# Altium integrated library TI Power Management Power Multiplexer (MUX).IntLib: 62 symbols (part 1 of 3)
Pins are listed as number, name and electrical type; pins without a type are passive.

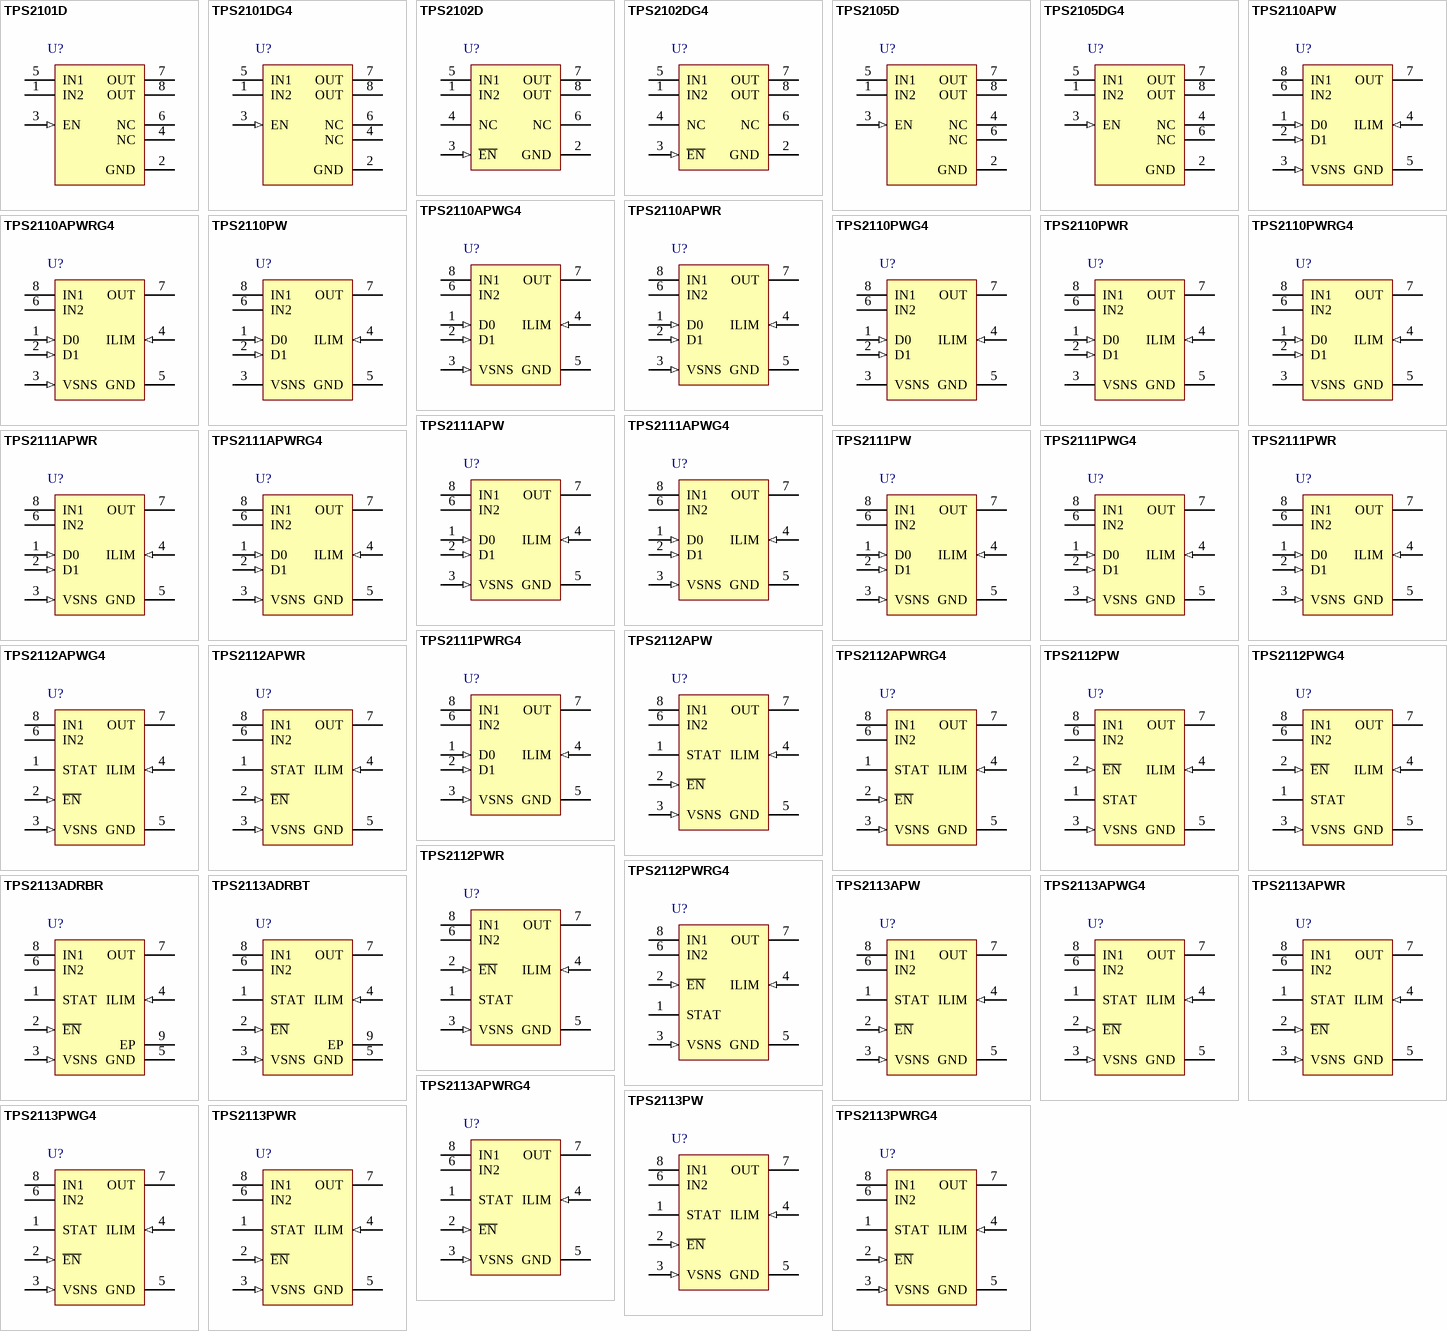
[diagram p0: symbols TPS2101D to TPS2113PWRG4]

## TPS2101D
designator U?
Dual In / Single Out MOSFET, 0.5 A Main / 0.01 A Aux Input, Act-Hi Enable, Comm. Temp, 2.7 to 4 V, -40 to 85 degC, 8-pin SOIC (D), Green (RoHS & no Sb/Br); Manufacturer: Texas Instruments; PartNumber: TPS2101D; IN1 Output Current(Max)(A): 0.5; IN1 rDS(on)(Typ)(mOhm): 250; IN1, IN2 Input Voltage(Max)(V): 4; IN1, IN2 Input Voltage(Min)(V): 2.7; IN2 Output Current(Max)(A): 0.01; IN2 rDS(on)(Typ)(Ohms): 1.3; Number of Inputs: 2; SubFamily: Power Multiplexer (MUX); DatasheetVersion: SLVS197D; PackageVersion: revM, Jun-2011; PackageReference: D8; PackageDescription: 8-Pin Plastic Small Outline Integrated Circuit, 4.9 x 3.9 mm, Pitch 1.27 mm Pitch; Supplier 1: Digi-Key; Supplier Part Number 1: 296-2585-5-ND; Supplier 2: Newark; Supplier Part Number 2: 77C0069; Supplier 3: Mouser; Supplier Part Number 3: 595-TPS2101D; Eco-Plan: Green (RoHS & no Sb/Br); Mounting Technology: Surface Mount; Code_JEDEC: MS-012AA; ComponentLink1Description: Datasheet; ComponentLink1URL: http://www.ti.com/general/docs/lit/getliterature.tsp?genericPartNumber=TPS2101&fileType=pdf
footprint D8_N (SOIC, 8-Leads, Body 4.9x3.9mm, Pitch 1.27mm, IPC Medium Density)
footprint D8_L (SOIC, 8-Leads, Body 4.9x3.9mm, Pitch 1.27mm, IPC High Density)
footprint D8_M (SOIC, 8-Leads, Body 4.9x3.9mm, Pitch 1.27mm, IPC Low Density)
pins: 1 IN2 (power) "Auxilliary input voltage, PMOS drain (1.3 ohm)", 2 GND (power) "Ground", 3 EN (in) "Active-high enable for IN1-OUT switch", 4 NC "No connection", 5 IN1 (power) "Main Input voltage, NMOS drain (250 mohm)", 6 NC "No connection", 7 OUT (power) "Power switch output", 8 OUT (power) "Power switch output"

## TPS2101DG4
designator U?
Dual In / Single Out MOSFET, 0.5 A Main / 0.01 A Aux Input, Act-Hi Enable, Comm. Temp, 2.7 to 4 V, -40 to 85 degC, 8-pin SOIC (D), Green (RoHS & no Sb/Br); Manufacturer: Texas Instruments; PartNumber: TPS2101DG4; IN1 Output Current(Max)(A): 0.5; IN1 rDS(on)(Typ)(mOhm): 250; IN1, IN2 Input Voltage(Max)(V): 4; IN1, IN2 Input Voltage(Min)(V): 2.7; IN2 Output Current(Max)(A): 0.01; IN2 rDS(on)(Typ)(Ohms): 1.3; Number of Inputs: 2; SubFamily: Power Multiplexer (MUX); DatasheetVersion: SLVS197D; PackageVersion: revM, Jun-2011; PackageReference: D8; PackageDescription: 8-Pin Plastic Small Outline Integrated Circuit, 4.9 x 3.9 mm, Pitch 1.27 mm Pitch; Supplier 1: Digi-Key; Supplier Part Number 1: TPS2101DG4-ND; Supplier 2: Newark; Supplier Part Number 2: 41M5856; Supplier 3: Mouser; Supplier Part Number 3: 595-TPS2101DG4; Eco-Plan: Green (RoHS & no Sb/Br); Mounting Technology: Surface Mount; Code_JEDEC: MS-012AA; ComponentLink1Description: Datasheet; ComponentLink1URL: http://www.ti.com/general/docs/lit/getliterature.tsp?genericPartNumber=TPS2101&fileType=pdf
footprint D8_N (SOIC, 8-Leads, Body 4.9x3.9mm, Pitch 1.27mm, IPC Medium Density)
footprint D8_L (SOIC, 8-Leads, Body 4.9x3.9mm, Pitch 1.27mm, IPC High Density)
footprint D8_M (SOIC, 8-Leads, Body 4.9x3.9mm, Pitch 1.27mm, IPC Low Density)
pins: 1 IN2 (power) "Auxilliary input voltage, PMOS drain (1.3 ohm)", 2 GND (power) "Ground", 3 EN (in) "Active-high enable for IN1-OUT switch", 4 NC "No connection", 5 IN1 (power) "Main Input voltage, NMOS drain (250 mohm)", 6 NC "No connection", 7 OUT (power) "Power switch output", 8 OUT (power) "Power switch output"

## TPS2102D
designator U?
Dual In / Single Out MOSFET, 0.5 A Main / 0.1 A Aux Input, Act-Low Enable, Comm. Temp, 2.7 to 4 V, -40 to 70 degC, 8-pin SOIC (D), Green (RoHS & no Sb/Br); Manufacturer: Texas Instruments; PartNumber: TPS2102D; IN1 Output Current(Max)(A): 0.5; IN1 rDS(on)(Typ)(mOhm): 250; IN1, IN2 Input Voltage(Max)(V): 4; IN1, IN2 Input Voltage(Min)(V): 2.7; IN2 Output Current(Max)(A): 0.1; IN2 rDS(on)(Typ)(Ohms): 1.3; Number of Inputs: 2; SubFamily: Power Multiplexer (MUX); DatasheetVersion: SLVS234A; PackageVersion: revM, Jun-2011; PackageReference: D8; PackageDescription: 8-Pin Plastic Small Outline Integrated Circuit, 4.9 x 3.9 mm, Pitch 1.27 mm Pitch; Supplier 1: Digi-Key; Supplier Part Number 1: 296-2587-5-ND; Supplier 2: Newark; Supplier Part Number 2: 77C0073; Supplier 3: Mouser; Supplier Part Number 3: 595-TPS2102D; Eco-Plan: Green (RoHS & no Sb/Br); Mounting Technology: Surface Mount; Code_JEDEC: MS-012AA; ComponentLink1Description: Datasheet; ComponentLink1URL: http://www.ti.com/general/docs/lit/getliterature.tsp?genericPartNumber=TPS2102&fileType=pdf
footprint D8_N (SOIC, 8-Leads, Body 4.9x3.9mm, Pitch 1.27mm, IPC Medium Density)
footprint D8_L (SOIC, 8-Leads, Body 4.9x3.9mm, Pitch 1.27mm, IPC High Density)
footprint D8_M (SOIC, 8-Leads, Body 4.9x3.9mm, Pitch 1.27mm, IPC Low Density)
pins: 1 IN2 (power) "Auxilliary input voltage, PMOS drain (1.3 ohm), require 0.22 uF bypass", 2 GND (power) "Ground", 3 ~{EN} (in) "Active-low enable for IN1-OUT switch", 4 NC "No connection", 5 IN1 (power) "Main Input voltage, NMOS drain (250 mohm), require 0.22 uF bypass", 6 NC "No connection", 7 OUT (power) "Power switch output", 8 OUT (power) "Power switch output"

## TPS2102DG4
designator U?
Dual In / Single Out MOSFET, 0.5 A Main / 0.1 A Aux Input, Act-Low Enable, Comm. Temp, 2.7 to 4 V, -40 to 70 degC, 8-pin SOIC (D), Green (RoHS & no Sb/Br); Manufacturer: Texas Instruments; PartNumber: TPS2102DG4; IN1 Output Current(Max)(A): 0.5; IN1 rDS(on)(Typ)(mOhm): 250; IN1, IN2 Input Voltage(Max)(V): 4; IN1, IN2 Input Voltage(Min)(V): 2.7; IN2 Output Current(Max)(A): 0.1; IN2 rDS(on)(Typ)(Ohms): 1.3; Number of Inputs: 2; SubFamily: Power Multiplexer (MUX); DatasheetVersion: SLVS234A; PackageVersion: revM, Jun-2011; PackageReference: D8; PackageDescription: 8-Pin Plastic Small Outline Integrated Circuit, 4.9 x 3.9 mm, Pitch 1.27 mm Pitch; Supplier 1: Digi-Key; Supplier Part Number 1: TPS2102DG4-ND; Supplier 2: Newark; Supplier Part Number 2: 33K7563; Supplier 3: Mouser; Supplier Part Number 3: 595-TPS2102DG4; Eco-Plan: Green (RoHS & no Sb/Br); Mounting Technology: Surface Mount; Code_JEDEC: MS-012AA; ComponentLink1Description: Datasheet; ComponentLink1URL: http://www.ti.com/general/docs/lit/getliterature.tsp?genericPartNumber=TPS2102&fileType=pdf
footprint D8_N (SOIC, 8-Leads, Body 4.9x3.9mm, Pitch 1.27mm, IPC Medium Density)
footprint D8_L (SOIC, 8-Leads, Body 4.9x3.9mm, Pitch 1.27mm, IPC High Density)
footprint D8_M (SOIC, 8-Leads, Body 4.9x3.9mm, Pitch 1.27mm, IPC Low Density)
pins: 1 IN2 (power) "Auxilliary input voltage, PMOS drain (1.3 ohm), require 0.22 uF bypass", 2 GND (power) "Ground", 3 ~{EN} (in) "Active-low enable for IN1-OUT switch", 4 NC "No connection", 5 IN1 (power) "Main Input voltage, NMOS drain (250 mohm), require 0.22 uF bypass", 6 NC "No connection", 7 OUT (power) "Power switch output", 8 OUT (power) "Power switch output"

## TPS2105D
designator U?
Dual In / Single Out MOSFET, 0.5 A Main / 0.1 A Aux Input, Act-High Enable, Industrial Temp, 2.7 to 5.5 V, -40 to 85 degC, 8-pin SOIC (D), Green (RoHS & no Sb/Br); Manufacturer: Texas Instruments; PartNumber: TPS2105D; IN1 Output Current(Max)(A): 0.5; IN1 rDS(on)(Typ)(mOhm): 250; IN1, IN2 Input Voltage(Max)(V): 5.5; IN1, IN2 Input Voltage(Min)(V): 2.7; IN2 Output Current(Max)(A): 0.1; IN2 rDS(on)(Typ)(Ohms): 1.3; Number of Inputs: 2; SubFamily: Power Multiplexer (MUX); DatasheetVersion: SLVS235A; PackageVersion: revM, Jun-2011; PackageReference: D8; PackageDescription: 8-Pin Plastic Small Outline Integrated Circuit, 4.9 x 3.9 mm, Pitch 1.27 mm Pitch; Supplier 1: Digi-Key; Supplier Part Number 1: 296-2592-5-ND; Supplier 2: Newark; Supplier Part Number 2: 77C0084; Supplier 3: Mouser; Supplier Part Number 3: 595-TPS2105D; Eco-Plan: Green (RoHS & no Sb/Br); Mounting Technology: Surface Mount; Code_JEDEC: MS-012AA; ComponentLink1Description: Datasheet; ComponentLink1URL: http://www.ti.com/general/docs/lit/getliterature.tsp?genericPartNumber=TPS2105&fileType=pdf
footprint D8_N (SOIC, 8-Leads, Body 4.9x3.9mm, Pitch 1.27mm, IPC Medium Density)
footprint D8_L (SOIC, 8-Leads, Body 4.9x3.9mm, Pitch 1.27mm, IPC High Density)
footprint D8_M (SOIC, 8-Leads, Body 4.9x3.9mm, Pitch 1.27mm, IPC Low Density)
pins: 1 IN2 (power) "Auxilliary input voltage, PMOS drain (1.3 ohm), require 0.22 uF bypass", 2 GND (power) "Ground", 3 EN (in) "Active-high enable for IN1-OUT switch", 4 NC "No connection", 5 IN1 (power) "Main input voltage, NMOS drain (250 mohm), require 0.22 uF bypass", 6 NC "No connection", 7 OUT (power) "Power switch output", 8 OUT (power) "Power switch output"

## TPS2105DG4
designator U?
Dual In / Single Out MOSFET, 0.5 A Main / 0.1 A Aux Input, Act-High Enable, Industrial Temp, 2.7 to 5.5 V, -40 to 85 degC, 8-pin SOIC (D), Green (RoHS & no Sb/Br); Manufacturer: Texas Instruments; PartNumber: TPS2105DG4; IN1 Output Current(Max)(A): 0.5; IN1 rDS(on)(Typ)(mOhm): 250; IN1, IN2 Input Voltage(Max)(V): 5.5; IN1, IN2 Input Voltage(Min)(V): 2.7; IN2 Output Current(Max)(A): 0.1; IN2 rDS(on)(Typ)(Ohms): 1.3; Number of Inputs: 2; SubFamily: Power Multiplexer (MUX); DatasheetVersion: SLVS235A; PackageVersion: revM, Jun-2011; PackageReference: D8; PackageDescription: 8-Pin Plastic Small Outline Integrated Circuit, 4.9 x 3.9 mm, Pitch 1.27 mm Pitch; Supplier 1: Digi-Key; Supplier Part Number 1: TPS2105DG4-ND; Supplier 2: Newark; Supplier Part Number 2: 41M5857; Supplier 3: Mouser; Supplier Part Number 3: 595-TPS2105DG4; Eco-Plan: Green (RoHS & no Sb/Br); Mounting Technology: Surface Mount; Code_JEDEC: MS-012AA; ComponentLink1Description: Datasheet; ComponentLink1URL: http://www.ti.com/general/docs/lit/getliterature.tsp?genericPartNumber=TPS2105&fileType=pdf
footprint D8_N (SOIC, 8-Leads, Body 4.9x3.9mm, Pitch 1.27mm, IPC Medium Density)
footprint D8_L (SOIC, 8-Leads, Body 4.9x3.9mm, Pitch 1.27mm, IPC High Density)
footprint D8_M (SOIC, 8-Leads, Body 4.9x3.9mm, Pitch 1.27mm, IPC Low Density)
pins: 1 IN2 (power) "Auxilliary input voltage, PMOS drain (1.3 ohm), require 0.22 uF bypass", 2 GND (power) "Ground", 3 EN (in) "Active-high enable for IN1-OUT switch", 4 NC "No connection", 5 IN1 (power) "Main input voltage, NMOS drain (250 mohm), require 0.22 uF bypass", 6 NC "No connection", 7 OUT (power) "Power switch output", 8 OUT (power) "Power switch output"

## TPS2110APW
designator U?
Dual In / Single Out Autoswitching Power Mux, 2.8 to 5.5 V, -40 to 85 degC, 8-pin TSSOP (PW), Green (RoHS & no Sb/Br); Manufacturer: Texas Instruments; PartNumber: TPS2110APW; IN1 Output Current(Max)(A): 0.75; IN1 rDS(on)(Typ)(mOhm): 120; IN1, IN2 Input Voltage(Max)(V): 5.5; IN1, IN2 Input Voltage(Min)(V): 2.8; IN2 rDS(on)(Typ)(Ohms): 0.12; Number of Inputs: 2; SubFamily: Power Multiplexer (MUX); DatasheetVersion: SBVS043A; PackageVersion: revG, Feb-2011; PackageReference: PW8; PackageDescription: 8-Pin Plastic Thin Small Outline Package 3 x 4.4 mm Body ,0.65 mm Pitch; Supplier 1: Digi-Key; Supplier Part Number 1: 296-34594-5-ND; Supplier 2: Newark; Supplier Part Number 2: 01J0954; Supplier 3: Mouser; Supplier Part Number 3: 595-TPS2110APW; Eco-Plan: Green (RoHS & no Sb/Br); IN2 Output Current(Max)(A): 0.75; Mounting Technology: Surface Mount; Code_JEDEC: MO-153; ComponentLink1Description: Datasheet; ComponentLink1URL: http://www.ti.com/general/docs/lit/getliterature.tsp?genericPartNumber=TPS2110A&fileType=pdf
footprint PW8_N (TSOP, 8-Leads, Body 3x4.4mm, Pitch 0.65mm, IPC Medium Density)
footprint PW8_L (TSOP, 8-Leads, Body 3x4.4mm, Pitch 0.65mm, IPC High Density)
footprint PW8_M (TSOP, 8-Leads, Body 3x4.4mm, Pitch 0.65mm, IPC Low Density)
pins: 1 D0 (in) "TTL- and CMOS-compatible input pins. Each pin has a 1-mA pull-up. The Truth Table illustrates the functionality of D0 and D1.", 2 D1 (in) "TTL- and CMOS-compatible input pins. Each pin has a 1-mA pull-up. The Truth Table illustrates the functionality of D0 and D1.", 3 VSNS (in) "In the auto-switching mode (D0 = 1, D1 = 0), an internal power FET connects OUT to IN1 if the VSNS voltage is greater than 0.8 V. Otherwise, the FET connects OUT to the higher of IN1 and IN2. The Truth Table illustrates the (See Datasheet)", 4 ILIM (in) "A resistor (RILIM) from ILIM to GND sets the current limit IL to 250/RILIM and 500/RILIM for the TPS2110A, respectively.", 5 GND (power) "Ground", 6 IN2 (power) "Secondary power switch input. The IN2 switch can be enabled only if the IN2 supply is above the UVLO threshold and at least one supply exceeds the internal VDD UVLO.", 7 OUT (power) "Power switch output", 8 IN1 (power) "Primary power switch input. The IN1 switch can be enabled only if the IN1 supply is above the UVLO threshold and at least one supply exceeds the internal VDD UVLO."

## TPS2110APWG4
designator U?
Dual In / Single Out Autoswitching Power Mux, 2.8 to 5.5 V, -40 to 85 degC, 8-pin TSSOP (PW), Green (RoHS & no Sb/Br); Manufacturer: Texas Instruments; PartNumber: TPS2110APWG4; IN1 Output Current(Max)(A): 0.75; IN1 rDS(on)(Typ)(mOhm): 120; IN1, IN2 Input Voltage(Max)(V): 5.5; IN1, IN2 Input Voltage(Min)(V): 2.8; IN2 rDS(on)(Typ)(Ohms): 0.12; Number of Inputs: 2; SubFamily: Power Multiplexer (MUX); DatasheetVersion: SBVS043A; PackageVersion: revG, Feb-2011; PackageReference: PW8; PackageDescription: 8-Pin Plastic Thin Small Outline Package 3 x 4.4 mm Body ,0.65 mm Pitch; Supplier 1: Digi-Key; Supplier Part Number 1: TPS2110APWG4-ND; Supplier 2: Newark; Supplier Part Number 2: 81K4133; Supplier 3: Mouser; Supplier Part Number 3: 595-TPS2110APWG4; Eco-Plan: Green (RoHS & no Sb/Br); IN2 Output Current(Max)(A): 0.75; Mounting Technology: Surface Mount; Code_JEDEC: MO-153; ComponentLink1Description: Datasheet; ComponentLink1URL: http://www.ti.com/general/docs/lit/getliterature.tsp?genericPartNumber=TPS2110A&fileType=pdf
footprint PW8_N (TSOP, 8-Leads, Body 3x4.4mm, Pitch 0.65mm, IPC Medium Density)
footprint PW8_L (TSOP, 8-Leads, Body 3x4.4mm, Pitch 0.65mm, IPC High Density)
footprint PW8_M (TSOP, 8-Leads, Body 3x4.4mm, Pitch 0.65mm, IPC Low Density)
pins: 1 D0 (in) "TTL- and CMOS-compatible input pins. Each pin has a 1-mA pull-up. The Truth Table illustrates the functionality of D0 and D1.", 2 D1 (in) "TTL- and CMOS-compatible input pins. Each pin has a 1-mA pull-up. The Truth Table illustrates the functionality of D0 and D1.", 3 VSNS (in) "In the auto-switching mode (D0 = 1, D1 = 0), an internal power FET connects OUT to IN1 if the VSNS voltage is greater than 0.8 V. Otherwise, the FET connects OUT to the higher of IN1 and IN2. The Truth Table illustrates the (See Datasheet)", 4 ILIM (in) "A resistor (RILIM) from ILIM to GND sets the current limit IL to 250/RILIM and 500/RILIM for the TPS2110A, respectively.", 5 GND (power) "Ground", 6 IN2 (power) "Secondary power switch input. The IN2 switch can be enabled only if the IN2 supply is above the UVLO threshold and at least one supply exceeds the internal VDD UVLO.", 7 OUT (power) "Power switch output", 8 IN1 (power) "Primary power switch input. The IN1 switch can be enabled only if the IN1 supply is above the UVLO threshold and at least one supply exceeds the internal VDD UVLO."

## TPS2110APWR
designator U?
Dual In / Single Out Autoswitching Power Mux, 2.8 to 5.5 V, -40 to 85 degC, 8-pin TSSOP (PW), Green (RoHS & no Sb/Br); Manufacturer: Texas Instruments; PartNumber: TPS2110APWR; IN1 Output Current(Max)(A): 0.75; IN1 rDS(on)(Typ)(mOhm): 120; IN1, IN2 Input Voltage(Max)(V): 5.5; IN1, IN2 Input Voltage(Min)(V): 2.8; IN2 rDS(on)(Typ)(Ohms): 0.12; Number of Inputs: 2; SubFamily: Power Multiplexer (MUX); DatasheetVersion: SBVS043A; PackageVersion: revG, Feb-2011; PackageReference: PW8; PackageDescription: 8-Pin Plastic Thin Small Outline Package 3 x 4.4 mm Body ,0.65 mm Pitch; Supplier 1: Digi-Key; Supplier Part Number 1: 296-16935-2-ND; Supplier 2: Digi-Key; Supplier Part Number 2: 296-16935-1-ND; Supplier 3: Digi-Key; Supplier Part Number 3: 296-16935-6-ND; Supplier 4: Newark; Supplier Part Number 4: 01J0955; Supplier 5: Mouser; Supplier Part Number 5: 595-TPS2110APWR; Eco-Plan: Green (RoHS & no Sb/Br); IN2 Output Current(Max)(A): 0.75; Mounting Technology: Surface Mount; Code_JEDEC: MO-153; ComponentLink1Description: Datasheet; ComponentLink1URL: http://www.ti.com/general/docs/lit/getliterature.tsp?genericPartNumber=TPS2110A&fileType=pdf
footprint PW8_N (TSOP, 8-Leads, Body 3x4.4mm, Pitch 0.65mm, IPC Medium Density)
footprint PW8_L (TSOP, 8-Leads, Body 3x4.4mm, Pitch 0.65mm, IPC High Density)
footprint PW8_M (TSOP, 8-Leads, Body 3x4.4mm, Pitch 0.65mm, IPC Low Density)
pins: 1 D0 (in) "TTL- and CMOS-compatible input pins. Each pin has a 1-mA pull-up. The Truth Table illustrates the functionality of D0 and D1.", 2 D1 (in) "TTL- and CMOS-compatible input pins. Each pin has a 1-mA pull-up. The Truth Table illustrates the functionality of D0 and D1.", 3 VSNS (in) "In the auto-switching mode (D0 = 1, D1 = 0), an internal power FET connects OUT to IN1 if the VSNS voltage is greater than 0.8 V. Otherwise, the FET connects OUT to the higher of IN1 and IN2. The Truth Table illustrates the (See Datasheet)", 4 ILIM (in) "A resistor (RILIM) from ILIM to GND sets the current limit IL to 250/RILIM and 500/RILIM for the TPS2110A, respectively.", 5 GND (power) "Ground", 6 IN2 (power) "Secondary power switch input. The IN2 switch can be enabled only if the IN2 supply is above the UVLO threshold and at least one supply exceeds the internal VDD UVLO.", 7 OUT (power) "Power switch output", 8 IN1 (power) "Primary power switch input. The IN1 switch can be enabled only if the IN1 supply is above the UVLO threshold and at least one supply exceeds the internal VDD UVLO."

## TPS2110APWRG4
designator U?
Dual In / Single Out Autoswitching Power Mux, 2.8 to 5.5 V, -40 to 85 degC, 8-pin TSSOP (PW), Green (RoHS & no Sb/Br); Manufacturer: Texas Instruments; PartNumber: TPS2110APWRG4; IN1 Output Current(Max)(A): 0.75; IN1 rDS(on)(Typ)(mOhm): 120; IN1, IN2 Input Voltage(Max)(V): 5.5; IN1, IN2 Input Voltage(Min)(V): 2.8; IN2 rDS(on)(Typ)(Ohms): 0.12; Number of Inputs: 2; SubFamily: Power Multiplexer (MUX); DatasheetVersion: SBVS043A; PackageVersion: revG, Feb-2011; PackageReference: PW8; PackageDescription: 8-Pin Plastic Thin Small Outline Package 3 x 4.4 mm Body ,0.65 mm Pitch; Supplier 1: Digi-Key; Supplier Part Number 1: TPS2110APWRG4-ND; Supplier 2: Newark; Supplier Part Number 2: 08K4927; Supplier 3: Mouser; Supplier Part Number 3: 595-TPS2110APWRG4; Eco-Plan: Green (RoHS & no Sb/Br); IN2 Output Current(Max)(A): 0.75; Mounting Technology: Surface Mount; Code_JEDEC: MO-153; ComponentLink1Description: Datasheet; ComponentLink1URL: http://www.ti.com/general/docs/lit/getliterature.tsp?genericPartNumber=TPS2110A&fileType=pdf
footprint PW8_N (TSOP, 8-Leads, Body 3x4.4mm, Pitch 0.65mm, IPC Medium Density)
footprint PW8_L (TSOP, 8-Leads, Body 3x4.4mm, Pitch 0.65mm, IPC High Density)
footprint PW8_M (TSOP, 8-Leads, Body 3x4.4mm, Pitch 0.65mm, IPC Low Density)
pins: 1 D0 (in) "TTL- and CMOS-compatible input pins. Each pin has a 1-mA pull-up. The Truth Table illustrates the functionality of D0 and D1.", 2 D1 (in) "TTL- and CMOS-compatible input pins. Each pin has a 1-mA pull-up. The Truth Table illustrates the functionality of D0 and D1.", 3 VSNS (in) "In the auto-switching mode (D0 = 1, D1 = 0), an internal power FET connects OUT to IN1 if the VSNS voltage is greater than 0.8 V. Otherwise, the FET connects OUT to the higher of IN1 and IN2. The Truth Table illustrates the (See Datasheet)", 4 ILIM (in) "A resistor (RILIM) from ILIM to GND sets the current limit IL to 250/RILIM and 500/RILIM for the TPS2110A, respectively.", 5 GND (power) "Ground", 6 IN2 (power) "Secondary power switch input. The IN2 switch can be enabled only if the IN2 supply is above the UVLO threshold and at least one supply exceeds the internal VDD UVLO.", 7 OUT (power) "Power switch output", 8 IN1 (power) "Primary power switch input. The IN1 switch can be enabled only if the IN1 supply is above the UVLO threshold and at least one supply exceeds the internal VDD UVLO."

## TPS2110PW
designator U?
Dual In / Single Out Autoswitching Power MUX, Manual / Auto Sw, Adj. Cur Limit, Adj. Vol Threshold, 2.8 to 5.5 V, -40 to 85 degC, 8-pin TSSOP (PW), Green (RoHS & no Sb/Br); Manufacturer: Texas Instruments; PartNumber: TPS2110PW; IN1 Output Current(Max)(A): 0.75; IN1 rDS(on)(Typ)(mOhm): 120; IN1, IN2 Input Voltage(Max)(V): 5.5; IN1, IN2 Input Voltage(Min)(V): 2.8; IN2 rDS(on)(Typ)(Ohms): 0.12; Number of Inputs: 2; SubFamily: Power Multiplexer (MUX); DatasheetVersion: SLVS443; PackageVersion: revG, Feb-2011; PackageReference: PW8; PackageDescription: 8-Pin Plastic Thin Small Outline Package 3 x 4.4 mm Body ,0.65 mm Pitch; Supplier 1: Digi-Key; Supplier Part Number 1: 296-14202-5-ND; Supplier 2: Newark; Supplier Part Number 2: 22H1357; Supplier 3: Mouser; Supplier Part Number 3: 595-TPS2110PW; Eco-Plan: Green (RoHS & no Sb/Br); IN2 Output Current(Max)(A): 0.75; Mounting Technology: Surface Mount; Code_JEDEC: MO-153; ComponentLink1Description: Datasheet; ComponentLink1URL: http://www.ti.com/general/docs/lit/getliterature.tsp?genericPartNumber=TPS2110&fileType=pdf
footprint PW8_N (TSOP, 8-Leads, Body 3x4.4mm, Pitch 0.65mm, IPC Medium Density)
footprint PW8_L (TSOP, 8-Leads, Body 3x4.4mm, Pitch 0.65mm, IPC High Density)
footprint PW8_M (TSOP, 8-Leads, Body 3x4.4mm, Pitch 0.65mm, IPC Low Density)
pins: 1 D0 (in) "TTL and CMOS compatible input pins. Each pin has a 1-µA pull-up. The truth table shown above illustrates the functionality of D0 and D1.", 2 D1 (in) "TTL and CMOS compatible input pins. Each pin has a 1-µA pull-up. The truth table shown above illustrates the functionality of D0 and D1.", 3 VSNS (power) "In the auto-switching mode (D0 = 1, D1 = 0), an internal power FET connects OUT to IN1 if the VSNS voltage is greater than 0.8 V. Otherwise, the FET connects OUT to the higher of IN1 and IN2. The truth table shown above (See Datasheet)", 4 ILIM (in) "A resistor RILIM from ILIM to GND sets the current limit IL to 250/RILIM and 500/RILIM for the TPS2110 and TPS2111, respectively.", 5 GND (power) "Ground", 6 IN2 (power) "Secondary power switch input. The IN2 switch can be enabled only if the IN2 supply is above the UVLO threshold and at least one supply exceeds the internal VDD UVLO.", 7 OUT (power) "Power switch output", 8 IN1 (power) "Primary power switch input. The IN1 switch can be enabled only if the IN1 supply is above the UVLO threshold and at least one supply exceeds the internal VDD UVLO."

## TPS2110PWG4
designator U?
Dual In / Single Out Autoswitching Power MUX, Manual / Auto Sw, Adj. Cur Limit, Adj. Vol Threshold, 2.8 to 5.5 V, -40 to 85 degC, 8-pin TSSOP (PW), Green (RoHS & no Sb/Br); Manufacturer: Texas Instruments; PartNumber: TPS2110PWG4; IN1 Output Current(Max)(A): 0.75; IN1 rDS(on)(Typ)(mOhm): 120; IN1, IN2 Input Voltage(Max)(V): 5.5; IN1, IN2 Input Voltage(Min)(V): 2.8; IN2 rDS(on)(Typ)(Ohms): 0.12; Number of Inputs: 2; SubFamily: Power Multiplexer (MUX); DatasheetVersion: SLVS443; PackageVersion: revG, Feb-2011; PackageReference: PW8; PackageDescription: 8-Pin Plastic Thin Small Outline Package 3 x 4.4 mm Body ,0.65 mm Pitch; Supplier 1: Digi-Key; Supplier Part Number 1: TPS2110PWG4-ND; Supplier 2: Newark; Supplier Part Number 2: 54K1554; Supplier 3: Mouser; Supplier Part Number 3: 595-TPS2110PWG4; Eco-Plan: Green (RoHS & no Sb/Br); IN2 Output Current(Max)(A): 0.75; Mounting Technology: Surface Mount; Code_JEDEC: MO-153; ComponentLink1Description: Datasheet; ComponentLink1URL: http://www.ti.com/general/docs/lit/getliterature.tsp?genericPartNumber=TPS2110&fileType=pdf
footprint PW8_N (TSOP, 8-Leads, Body 3x4.4mm, Pitch 0.65mm, IPC Medium Density)
footprint PW8_L (TSOP, 8-Leads, Body 3x4.4mm, Pitch 0.65mm, IPC High Density)
footprint PW8_M (TSOP, 8-Leads, Body 3x4.4mm, Pitch 0.65mm, IPC Low Density)
pins: 1 D0 (in) "TTL and CMOS compatible input pins. Each pin has a 1-µA pull-up. The truth table shown above illustrates the functionality of D0 and D1.", 2 D1 (in) "TTL and CMOS compatible input pins. Each pin has a 1-µA pull-up. The truth table shown above illustrates the functionality of D0 and D1.", 3 VSNS (power) "In the auto-switching mode (D0 = 1, D1 = 0), an internal power FET connects OUT to IN1 if the VSNS voltage is greater than 0.8 V. Otherwise, the FET connects OUT to the higher of IN1 and IN2. The truth table shown above (See Datasheet)", 4 ILIM (in) "A resistor RILIM from ILIM to GND sets the current limit IL to 250/RILIM and 500/RILIM for the TPS2110 and TPS2111, respectively.", 5 GND (power) "Ground", 6 IN2 (power) "Secondary power switch input. The IN2 switch can be enabled only if the IN2 supply is above the UVLO threshold and at least one supply exceeds the internal VDD UVLO.", 7 OUT (power) "Power switch output", 8 IN1 (power) "Primary power switch input. The IN1 switch can be enabled only if the IN1 supply is above the UVLO threshold and at least one supply exceeds the internal VDD UVLO."

## TPS2110PWR
designator U?
Dual In / Single Out Autoswitching Power MUX, Manual / Auto Sw, Adj. Cur Limit, Adj. Vol Threshold, 2.8 to 5.5 V, -40 to 85 degC, 8-pin TSSOP (PW), Green (RoHS & no Sb/Br); Manufacturer: Texas Instruments; PartNumber: TPS2110PWR; IN1 Output Current(Max)(A): 0.75; IN1 rDS(on)(Typ)(mOhm): 120; IN1, IN2 Input Voltage(Max)(V): 5.5; IN1, IN2 Input Voltage(Min)(V): 2.8; IN2 rDS(on)(Typ)(Ohms): 0.12; Number of Inputs: 2; SubFamily: Power Multiplexer (MUX); DatasheetVersion: SLVS443; PackageVersion: revG, Feb-2011; PackageReference: PW8; PackageDescription: 8-Pin Plastic Thin Small Outline Package 3 x 4.4 mm Body ,0.65 mm Pitch; Supplier 1: Digi-Key; Supplier Part Number 1: TPS2110PWR-ND; Supplier 2: Newark; Supplier Part Number 2: 22H1358; Supplier 3: Mouser; Supplier Part Number 3: 595-TPS2110PWR; Eco-Plan: Green (RoHS & no Sb/Br); IN2 Output Current(Max)(A): 0.75; Mounting Technology: Surface Mount; Code_JEDEC: MO-153; ComponentLink1Description: Datasheet; ComponentLink1URL: http://www.ti.com/general/docs/lit/getliterature.tsp?genericPartNumber=TPS2110&fileType=pdf
footprint PW8_N (TSOP, 8-Leads, Body 3x4.4mm, Pitch 0.65mm, IPC Medium Density)
footprint PW8_L (TSOP, 8-Leads, Body 3x4.4mm, Pitch 0.65mm, IPC High Density)
footprint PW8_M (TSOP, 8-Leads, Body 3x4.4mm, Pitch 0.65mm, IPC Low Density)
pins: 1 D0 (in) "TTL and CMOS compatible input pins. Each pin has a 1-µA pull-up. The truth table shown above illustrates the functionality of D0 and D1.", 2 D1 (in) "TTL and CMOS compatible input pins. Each pin has a 1-µA pull-up. The truth table shown above illustrates the functionality of D0 and D1.", 3 VSNS (power) "In the auto-switching mode (D0 = 1, D1 = 0), an internal power FET connects OUT to IN1 if the VSNS voltage is greater than 0.8 V. Otherwise, the FET connects OUT to the higher of IN1 and IN2. The truth table shown above (See Datasheet)", 4 ILIM (in) "A resistor RILIM from ILIM to GND sets the current limit IL to 250/RILIM and 500/RILIM for the TPS2110 and TPS2111, respectively.", 5 GND (power) "Ground", 6 IN2 (power) "Secondary power switch input. The IN2 switch can be enabled only if the IN2 supply is above the UVLO threshold and at least one supply exceeds the internal VDD UVLO.", 7 OUT (power) "Power switch output", 8 IN1 (power) "Primary power switch input. The IN1 switch can be enabled only if the IN1 supply is above the UVLO threshold and at least one supply exceeds the internal VDD UVLO."

## TPS2110PWRG4
designator U?
Dual In / Single Out Autoswitching Power MUX, Manual / Auto Sw, Adj. Cur Limit, Adj. Vol Threshold, 2.8 to 5.5 V, -40 to 85 degC, 8-pin TSSOP (PW), Green (RoHS & no Sb/Br); Manufacturer: Texas Instruments; PartNumber: TPS2110PWRG4; IN1 Output Current(Max)(A): 0.75; IN1 rDS(on)(Typ)(mOhm): 120; IN1, IN2 Input Voltage(Max)(V): 5.5; IN1, IN2 Input Voltage(Min)(V): 2.8; IN2 rDS(on)(Typ)(Ohms): 0.12; Number of Inputs: 2; SubFamily: Power Multiplexer (MUX); DatasheetVersion: SLVS443; PackageVersion: revG, Feb-2011; PackageReference: PW8; PackageDescription: 8-Pin Plastic Thin Small Outline Package 3 x 4.4 mm Body ,0.65 mm Pitch; Supplier 1: Digi-Key; Supplier Part Number 1: TPS2110PWRG4-ND; Supplier 2: Newark; Supplier Part Number 2: 54K1555; Supplier 3: Mouser; Supplier Part Number 3: 595-TPS2110PWRG4; Eco-Plan: Green (RoHS & no Sb/Br); IN2 Output Current(Max)(A): 0.75; Mounting Technology: Surface Mount; Code_JEDEC: MO-153; ComponentLink1Description: Datasheet; ComponentLink1URL: http://www.ti.com/general/docs/lit/getliterature.tsp?genericPartNumber=TPS2110&fileType=pdf
footprint PW8_N (TSOP, 8-Leads, Body 3x4.4mm, Pitch 0.65mm, IPC Medium Density)
footprint PW8_L (TSOP, 8-Leads, Body 3x4.4mm, Pitch 0.65mm, IPC High Density)
footprint PW8_M (TSOP, 8-Leads, Body 3x4.4mm, Pitch 0.65mm, IPC Low Density)
pins: 1 D0 (in) "TTL and CMOS compatible input pins. Each pin has a 1-µA pull-up. The truth table shown above illustrates the functionality of D0 and D1.", 2 D1 (in) "TTL and CMOS compatible input pins. Each pin has a 1-µA pull-up. The truth table shown above illustrates the functionality of D0 and D1.", 3 VSNS (power) "In the auto-switching mode (D0 = 1, D1 = 0), an internal power FET connects OUT to IN1 if the VSNS voltage is greater than 0.8 V. Otherwise, the FET connects OUT to the higher of IN1 and IN2. The truth table shown above (See Datasheet)", 4 ILIM (in) "A resistor RILIM from ILIM to GND sets the current limit IL to 250/RILIM and 500/RILIM for the TPS2110 and TPS2111, respectively.", 5 GND (power) "Ground", 6 IN2 (power) "Secondary power switch input. The IN2 switch can be enabled only if the IN2 supply is above the UVLO threshold and at least one supply exceeds the internal VDD UVLO.", 7 OUT (power) "Power switch output", 8 IN1 (power) "Primary power switch input. The IN1 switch can be enabled only if the IN1 supply is above the UVLO threshold and at least one supply exceeds the internal VDD UVLO."

## TPS2111APW
designator U?
Dual In / Single Out Autoswitching Power Mux, 2.8 to 5.5 V, -40 to 85 degC, 8-pin TSSOP (PW), Green (RoHS & no Sb/Br); Manufacturer: Texas Instruments; PartNumber: TPS2111APW; IN1 Output Current(Max)(A): 1.25; IN1 rDS(on)(Typ)(mOhm): 84; IN1, IN2 Input Voltage(Max)(V): 5.5; IN1, IN2 Input Voltage(Min)(V): 2.8; IN2 rDS(on)(Typ)(Ohms): 0.084; Number of Inputs: 2; SubFamily: Power Multiplexer (MUX); DatasheetVersion: SBVS043A; PackageVersion: revG, Feb-2011; PackageReference: PW8; PackageDescription: 8-Pin Plastic Thin Small Outline Package 3 x 4.4 mm Body ,0.65 mm Pitch; Supplier 1: Digi-Key; Supplier Part Number 1: 296-26917-5-ND; Supplier 2: Newark; Supplier Part Number 2: 01J0956; Supplier 3: Mouser; Supplier Part Number 3: 595-TPS2111APW; Eco-Plan: Green (RoHS & no Sb/Br); IN2 Output Current(Max)(A): 1.25; Mounting Technology: Surface Mount; Code_JEDEC: MO-153; ComponentLink1Description: Datasheet; ComponentLink1URL: http://www.ti.com/general/docs/lit/getliterature.tsp?genericPartNumber=TPS2111A&fileType=pdf
footprint PW8_N (TSOP, 8-Leads, Body 3x4.4mm, Pitch 0.65mm, IPC Medium Density)
footprint PW8_L (TSOP, 8-Leads, Body 3x4.4mm, Pitch 0.65mm, IPC High Density)
footprint PW8_M (TSOP, 8-Leads, Body 3x4.4mm, Pitch 0.65mm, IPC Low Density)
pins: 1 D0 (in) "TTL- and CMOS-compatible input pin. Each pin has a 1-uA pull-up. The Truth Table illustrates the functionality of D0 and D1.", 2 D1 (in) "TTL- and CMOS-compatible input pin. Each pin has a 1-uA pull-up. The Truth Table illustrates the functionality of D0 and D1.", 3 VSNS (in) "In the auto-switching mode (D0 = 1, D1 = 0), an internal power FET connects OUT to IN1 if the VSNS voltage is greater than 0.8 V. Otherwise, the FET connects OUT to the higher of IN1 and IN2. The Truth Table illustrates the (See Datasheet)", 4 ILIM (in) "A resistor (RILIM) from ILIM to GND sets the current limit IL to 500/RILIM for the TPS2111A.", 5 GND (power) "Ground", 6 IN2 (power) "Secondary power switch input. The IN2 switch can be enabled only if the IN2 supply is above the UVLO threshold and at least one supply exceeds the internal VDD UVLO.", 7 OUT (power) "Power switch output", 8 IN1 (power) "Primary power switch input. The IN1 switch can be enabled only if the IN1 supply is above the UVLO threshold and at least one supply exceeds the internal VDD UVLO."

## TPS2111APWG4
designator U?
Dual In / Single Out Autoswitching Power Mux, 2.8 to 5.5 V, -40 to 85 degC, 8-pin TSSOP (PW), Green (RoHS & no Sb/Br); Manufacturer: Texas Instruments; PartNumber: TPS2111APWG4; IN1 Output Current(Max)(A): 1.25; IN1 rDS(on)(Typ)(mOhm): 84; IN1, IN2 Input Voltage(Max)(V): 5.5; IN1, IN2 Input Voltage(Min)(V): 2.8; IN2 rDS(on)(Typ)(Ohms): 0.084; Number of Inputs: 2; SubFamily: Power Multiplexer (MUX); DatasheetVersion: SBVS043A; PackageVersion: revG, Feb-2011; PackageReference: PW8; PackageDescription: 8-Pin Plastic Thin Small Outline Package 3 x 4.4 mm Body ,0.65 mm Pitch; Supplier 1: Digi-Key; Supplier Part Number 1: TPS2111APWG4-ND; Supplier 2: Newark; Supplier Part Number 2: 67K8616; Supplier 3: Mouser; Supplier Part Number 3: 595-TPS2111APWG4; Eco-Plan: Green (RoHS & no Sb/Br); IN2 Output Current(Max)(A): 1.25; Mounting Technology: Surface Mount; Code_JEDEC: MO-153; ComponentLink1Description: Datasheet; ComponentLink1URL: http://www.ti.com/general/docs/lit/getliterature.tsp?genericPartNumber=TPS2111A&fileType=pdf
footprint PW8_N (TSOP, 8-Leads, Body 3x4.4mm, Pitch 0.65mm, IPC Medium Density)
footprint PW8_L (TSOP, 8-Leads, Body 3x4.4mm, Pitch 0.65mm, IPC High Density)
footprint PW8_M (TSOP, 8-Leads, Body 3x4.4mm, Pitch 0.65mm, IPC Low Density)
pins: 1 D0 (in) "TTL- and CMOS-compatible input pin. Each pin has a 1-uA pull-up. The Truth Table illustrates the functionality of D0 and D1.", 2 D1 (in) "TTL- and CMOS-compatible input pin. Each pin has a 1-uA pull-up. The Truth Table illustrates the functionality of D0 and D1.", 3 VSNS (in) "In the auto-switching mode (D0 = 1, D1 = 0), an internal power FET connects OUT to IN1 if the VSNS voltage is greater than 0.8 V. Otherwise, the FET connects OUT to the higher of IN1 and IN2. The Truth Table illustrates the (See Datasheet)", 4 ILIM (in) "A resistor (RILIM) from ILIM to GND sets the current limit IL to 500/RILIM for the TPS2111A.", 5 GND (power) "Ground", 6 IN2 (power) "Secondary power switch input. The IN2 switch can be enabled only if the IN2 supply is above the UVLO threshold and at least one supply exceeds the internal VDD UVLO.", 7 OUT (power) "Power switch output", 8 IN1 (power) "Primary power switch input. The IN1 switch can be enabled only if the IN1 supply is above the UVLO threshold and at least one supply exceeds the internal VDD UVLO."

## TPS2111APWR
designator U?
Dual In / Single Out Autoswitching Power Mux, 2.8 to 5.5 V, -40 to 85 degC, 8-pin TSSOP (PW), Green (RoHS & no Sb/Br); Manufacturer: Texas Instruments; PartNumber: TPS2111APWR; IN1 Output Current(Max)(A): 1.25; IN1 rDS(on)(Typ)(mOhm): 84; IN1, IN2 Input Voltage(Max)(V): 5.5; IN1, IN2 Input Voltage(Min)(V): 2.8; IN2 rDS(on)(Typ)(Ohms): 0.084; Number of Inputs: 2; SubFamily: Power Multiplexer (MUX); DatasheetVersion: SBVS043A; PackageVersion: revG, Feb-2011; PackageReference: PW8; PackageDescription: 8-Pin Plastic Thin Small Outline Package 3 x 4.4 mm Body ,0.65 mm Pitch; Supplier 1: Digi-Key; Supplier Part Number 1: 296-16936-2-ND; Supplier 2: Digi-Key; Supplier Part Number 2: 296-16936-1-ND; Supplier 3: Digi-Key; Supplier Part Number 3: 296-16936-6-ND; Supplier 4: Farnell; Supplier Part Number 4: 2144317; Supplier 5: Newark; Supplier Part Number 5: 01J0957; Supplier 6: Newark; Supplier Part Number 6: 46W1553; Supplier 7: Mouser; Supplier Part Number 7: 595-TPS2111APWR; Eco-Plan: Green (RoHS & no Sb/Br); IN2 Output Current(Max)(A): 1.25; Mounting Technology: Surface Mount; Code_JEDEC: MO-153; ComponentLink1Description: Datasheet; ComponentLink1URL: http://www.ti.com/general/docs/lit/getliterature.tsp?genericPartNumber=TPS2111A&fileType=pdf
footprint PW8_N (TSOP, 8-Leads, Body 3x4.4mm, Pitch 0.65mm, IPC Medium Density)
footprint PW8_L (TSOP, 8-Leads, Body 3x4.4mm, Pitch 0.65mm, IPC High Density)
footprint PW8_M (TSOP, 8-Leads, Body 3x4.4mm, Pitch 0.65mm, IPC Low Density)
pins: 1 D0 (in) "TTL- and CMOS-compatible input pin. Each pin has a 1-uA pull-up. The Truth Table illustrates the functionality of D0 and D1.", 2 D1 (in) "TTL- and CMOS-compatible input pin. Each pin has a 1-uA pull-up. The Truth Table illustrates the functionality of D0 and D1.", 3 VSNS (in) "In the auto-switching mode (D0 = 1, D1 = 0), an internal power FET connects OUT to IN1 if the VSNS voltage is greater than 0.8 V. Otherwise, the FET connects OUT to the higher of IN1 and IN2. The Truth Table illustrates the (See Datasheet)", 4 ILIM (in) "A resistor (RILIM) from ILIM to GND sets the current limit IL to 500/RILIM for the TPS2111A.", 5 GND (power) "Ground", 6 IN2 (power) "Secondary power switch input. The IN2 switch can be enabled only if the IN2 supply is above the UVLO threshold and at least one supply exceeds the internal VDD UVLO.", 7 OUT (power) "Power switch output", 8 IN1 (power) "Primary power switch input. The IN1 switch can be enabled only if the IN1 supply is above the UVLO threshold and at least one supply exceeds the internal VDD UVLO."

## TPS2111APWRG4
designator U?
Dual In / Single Out Autoswitching Power Mux, 2.8 to 5.5 V, -40 to 85 degC, 8-pin TSSOP (PW), Green (RoHS & no Sb/Br); Manufacturer: Texas Instruments; PartNumber: TPS2111APWRG4; IN1 Output Current(Max)(A): 1.25; IN1 rDS(on)(Typ)(mOhm): 84; IN1, IN2 Input Voltage(Max)(V): 5.5; IN1, IN2 Input Voltage(Min)(V): 2.8; IN2 rDS(on)(Typ)(Ohms): 0.084; Number of Inputs: 2; SubFamily: Power Multiplexer (MUX); DatasheetVersion: SBVS043A; PackageVersion: revG, Feb-2011; PackageReference: PW8; PackageDescription: 8-Pin Plastic Thin Small Outline Package 3 x 4.4 mm Body ,0.65 mm Pitch; Supplier 1: Digi-Key; Supplier Part Number 1: TPS2111APWRG4-ND; Supplier 2: Newark; Supplier Part Number 2: 08K4928; Supplier 3: Mouser; Supplier Part Number 3: 595-TPS2111APWRG4; Eco-Plan: Green (RoHS & no Sb/Br); IN2 Output Current(Max)(A): 1.25; Mounting Technology: Surface Mount; Code_JEDEC: MO-153; ComponentLink1Description: Datasheet; ComponentLink1URL: http://www.ti.com/general/docs/lit/getliterature.tsp?genericPartNumber=TPS2111A&fileType=pdf
footprint PW8_N (TSOP, 8-Leads, Body 3x4.4mm, Pitch 0.65mm, IPC Medium Density)
footprint PW8_L (TSOP, 8-Leads, Body 3x4.4mm, Pitch 0.65mm, IPC High Density)
footprint PW8_M (TSOP, 8-Leads, Body 3x4.4mm, Pitch 0.65mm, IPC Low Density)
pins: 1 D0 (in) "TTL- and CMOS-compatible input pin. Each pin has a 1-uA pull-up. The Truth Table illustrates the functionality of D0 and D1.", 2 D1 (in) "TTL- and CMOS-compatible input pin. Each pin has a 1-uA pull-up. The Truth Table illustrates the functionality of D0 and D1.", 3 VSNS (in) "In the auto-switching mode (D0 = 1, D1 = 0), an internal power FET connects OUT to IN1 if the VSNS voltage is greater than 0.8 V. Otherwise, the FET connects OUT to the higher of IN1 and IN2. The Truth Table illustrates the (See Datasheet)", 4 ILIM (in) "A resistor (RILIM) from ILIM to GND sets the current limit IL to 500/RILIM for the TPS2111A.", 5 GND (power) "Ground", 6 IN2 (power) "Secondary power switch input. The IN2 switch can be enabled only if the IN2 supply is above the UVLO threshold and at least one supply exceeds the internal VDD UVLO.", 7 OUT (power) "Power switch output", 8 IN1 (power) "Primary power switch input. The IN1 switch can be enabled only if the IN1 supply is above the UVLO threshold and at least one supply exceeds the internal VDD UVLO."

## TPS2111PW
designator U?
Dual In / Single Out Autoswitching Power MUX, Manual / Auto Sw, Adj. Cur Limit, Adj. Vol Threshold, 2.8 to 5.5 V, -40 to 85 degC, 8-pin TSSOP (PW), Green (RoHS & no Sb/Br); Manufacturer: Texas Instruments; PartNumber: TPS2111PW; IN1 Output Current(Max)(A): 1.25; IN1 rDS(on)(Typ)(mOhm): 84; IN1, IN2 Input Voltage(Max)(V): 5.5; IN1, IN2 Input Voltage(Min)(V): 2.8; IN2 rDS(on)(Typ)(Ohms): 0.084; Number of Inputs: 2; SubFamily: Power Multiplexer (MUX); DatasheetVersion: SLVS443; PackageVersion: revG, Feb-2011; PackageReference: PW8; PackageDescription: 8-Pin Plastic Thin Small Outline Package 3 x 4.4 mm Body ,0.65 mm Pitch; Supplier 1: Digi-Key; Supplier Part Number 1: 296-14203-5-ND; Supplier 2: Newark; Supplier Part Number 2: 22H1359; Supplier 3: Mouser; Supplier Part Number 3: 595-TPS2111PW; Eco-Plan: Green (RoHS & no Sb/Br); IN2 Output Current(Max)(A): 1.25; Mounting Technology: Surface Mount; Code_JEDEC: MO-153; ComponentLink1Description: Datasheet; ComponentLink1URL: http://www.ti.com/general/docs/lit/getliterature.tsp?genericPartNumber=TPS2111&fileType=pdf
footprint PW8_N (TSOP, 8-Leads, Body 3x4.4mm, Pitch 0.65mm, IPC Medium Density)
footprint PW8_L (TSOP, 8-Leads, Body 3x4.4mm, Pitch 0.65mm, IPC High Density)
footprint PW8_M (TSOP, 8-Leads, Body 3x4.4mm, Pitch 0.65mm, IPC Low Density)
pins: 1 D0 (in) "TTL and CMOS compatible input pins. Each pin has a 1-uA pull-up. The truth table shown above illustrates the functionality of D0 and D1.", 2 D1 (in) "TTL and CMOS compatible input pins. Each pin has a 1-uA pull-up. The truth table shown above illustrates the functionality of D0 and D1.", 3 VSNS (in) "In the auto-switching mode (D0 = 1, D1 = 0), an internal power FET connects OUT to IN1 if the VSNS voltage is greater than 0.8 V. Otherwise, the FET connects OUT to the higher of IN1 and IN2. The truth table shown above (See Datasheet)", 4 ILIM (in) "A resistor RILIM from ILIM to GND sets the current limit IL to 250/RILIM and 500/RILIM for the TPS2110 and TPS2111, respectively.", 5 GND (power) "Ground", 6 IN2 (power) "Secondary power switch input. The IN2 switch can be enabled only if the IN2 supply is above the UVLO threshold and at least one supply exceeds the internal VDD UVLO.", 7 OUT (power) "Power switch output", 8 IN1 (power) "Primary power switch input. The IN1 switch can be enabled only if the IN1 supply is above the UVLO threshold and at least one supply exceeds the internal VDD UVLO."

## TPS2111PWG4
designator U?
Dual In / Single Out Autoswitching Power MUX, Manual / Auto Sw, Adj. Cur Limit, Adj. Vol Threshold, 2.8 to 5.5 V, -40 to 85 degC, 8-pin TSSOP (PW), Green (RoHS & no Sb/Br); Manufacturer: Texas Instruments; PartNumber: TPS2111PWG4; IN1 Output Current(Max)(A): 1.25; IN1 rDS(on)(Typ)(mOhm): 84; IN1, IN2 Input Voltage(Max)(V): 5.5; IN1, IN2 Input Voltage(Min)(V): 2.8; IN2 rDS(on)(Typ)(Ohms): 0.084; Number of Inputs: 2; SubFamily: Power Multiplexer (MUX); DatasheetVersion: SLVS443; PackageVersion: revG, Feb-2011; PackageReference: PW8; PackageDescription: 8-Pin Plastic Thin Small Outline Package 3 x 4.4 mm Body ,0.65 mm Pitch; Supplier 1: Digi-Key; Supplier Part Number 1: TPS2111PWG4-ND; Supplier 2: Farnell; Supplier Part Number 2: 1207317; Supplier 3: Newark; Supplier Part Number 3: 62M0672; Supplier 4: Newark; Supplier Part Number 4: 61K1874; Supplier 5: Mouser; Supplier Part Number 5: 595-TPS2111PWG4; Eco-Plan: Green (RoHS & no Sb/Br); IN2 Output Current(Max)(A): 1.25; Mounting Technology: Surface Mount; Code_JEDEC: MO-153; ComponentLink1Description: Datasheet; ComponentLink1URL: http://www.ti.com/general/docs/lit/getliterature.tsp?genericPartNumber=TPS2111&fileType=pdf
footprint PW8_N (TSOP, 8-Leads, Body 3x4.4mm, Pitch 0.65mm, IPC Medium Density)
footprint PW8_L (TSOP, 8-Leads, Body 3x4.4mm, Pitch 0.65mm, IPC High Density)
footprint PW8_M (TSOP, 8-Leads, Body 3x4.4mm, Pitch 0.65mm, IPC Low Density)
pins: 1 D0 (in) "TTL and CMOS compatible input pins. Each pin has a 1-uA pull-up. The truth table shown above illustrates the functionality of D0 and D1.", 2 D1 (in) "TTL and CMOS compatible input pins. Each pin has a 1-uA pull-up. The truth table shown above illustrates the functionality of D0 and D1.", 3 VSNS (in) "In the auto-switching mode (D0 = 1, D1 = 0), an internal power FET connects OUT to IN1 if the VSNS voltage is greater than 0.8 V. Otherwise, the FET connects OUT to the higher of IN1 and IN2. The truth table shown above (See Datasheet)", 4 ILIM (in) "A resistor RILIM from ILIM to GND sets the current limit IL to 250/RILIM and 500/RILIM for the TPS2110 and TPS2111, respectively.", 5 GND (power) "Ground", 6 IN2 (power) "Secondary power switch input. The IN2 switch can be enabled only if the IN2 supply is above the UVLO threshold and at least one supply exceeds the internal VDD UVLO.", 7 OUT (power) "Power switch output", 8 IN1 (power) "Primary power switch input. The IN1 switch can be enabled only if the IN1 supply is above the UVLO threshold and at least one supply exceeds the internal VDD UVLO."

## TPS2111PWR
designator U?
Dual In / Single Out Autoswitching Power MUX, Manual / Auto Sw, Adj. Cur Limit, Adj. Vol Threshold, 2.8 to 5.5 V, -40 to 85 degC, 8-pin TSSOP (PW), Green (RoHS & no Sb/Br); Manufacturer: Texas Instruments; PartNumber: TPS2111PWR; IN1 Output Current(Max)(A): 1.25; IN1 rDS(on)(Typ)(mOhm): 84; IN1, IN2 Input Voltage(Max)(V): 5.5; IN1, IN2 Input Voltage(Min)(V): 2.8; IN2 rDS(on)(Typ)(Ohms): 0.084; Number of Inputs: 2; SubFamily: Power Multiplexer (MUX); DatasheetVersion: SLVS443; PackageVersion: revG, Feb-2011; PackageReference: PW8; PackageDescription: 8-Pin Plastic Thin Small Outline Package 3 x 4.4 mm Body ,0.65 mm Pitch; Supplier 1: Digi-Key; Supplier Part Number 1: TPS2111PWR-ND; Supplier 2: Newark; Supplier Part Number 2: 22H1360; Supplier 3: Mouser; Supplier Part Number 3: 595-TPS2111PWR; Eco-Plan: Green (RoHS & no Sb/Br); IN2 Output Current(Max)(A): 1.25; Mounting Technology: Surface Mount; Code_JEDEC: MO-153; ComponentLink1Description: Datasheet; ComponentLink1URL: http://www.ti.com/general/docs/lit/getliterature.tsp?genericPartNumber=TPS2111&fileType=pdf
footprint PW8_N (TSOP, 8-Leads, Body 3x4.4mm, Pitch 0.65mm, IPC Medium Density)
footprint PW8_L (TSOP, 8-Leads, Body 3x4.4mm, Pitch 0.65mm, IPC High Density)
footprint PW8_M (TSOP, 8-Leads, Body 3x4.4mm, Pitch 0.65mm, IPC Low Density)
pins: 1 D0 (in) "TTL and CMOS compatible input pins. Each pin has a 1-uA pull-up. The truth table shown above illustrates the functionality of D0 and D1.", 2 D1 (in) "TTL and CMOS compatible input pins. Each pin has a 1-uA pull-up. The truth table shown above illustrates the functionality of D0 and D1.", 3 VSNS (in) "In the auto-switching mode (D0 = 1, D1 = 0), an internal power FET connects OUT to IN1 if the VSNS voltage is greater than 0.8 V. Otherwise, the FET connects OUT to the higher of IN1 and IN2. The truth table shown above (See Datasheet)", 4 ILIM (in) "A resistor RILIM from ILIM to GND sets the current limit IL to 250/RILIM and 500/RILIM for the TPS2110 and TPS2111, respectively.", 5 GND (power) "Ground", 6 IN2 (power) "Secondary power switch input. The IN2 switch can be enabled only if the IN2 supply is above the UVLO threshold and at least one supply exceeds the internal VDD UVLO.", 7 OUT (power) "Power switch output", 8 IN1 (power) "Primary power switch input. The IN1 switch can be enabled only if the IN1 supply is above the UVLO threshold and at least one supply exceeds the internal VDD UVLO."

## TPS2111PWRG4
designator U?
Dual In / Single Out Autoswitching Power MUX, Manual / Auto Sw, Adj. Cur Limit, Adj. Vol Threshold, 2.8 to 5.5 V, -40 to 85 degC, 8-pin TSSOP (PW), Green (RoHS & no Sb/Br); Manufacturer: Texas Instruments; PartNumber: TPS2111PWRG4; IN1 Output Current(Max)(A): 1.25; IN1 rDS(on)(Typ)(mOhm): 84; IN1, IN2 Input Voltage(Max)(V): 5.5; IN1, IN2 Input Voltage(Min)(V): 2.8; IN2 rDS(on)(Typ)(Ohms): 0.084; Number of Inputs: 2; SubFamily: Power Multiplexer (MUX); DatasheetVersion: SLVS443; PackageVersion: revG, Feb-2011; PackageReference: PW8; PackageDescription: 8-Pin Plastic Thin Small Outline Package 3 x 4.4 mm Body ,0.65 mm Pitch; Supplier 1: Digi-Key; Supplier Part Number 1: TPS2111PWRG4-ND; Supplier 2: Newark; Supplier Part Number 2: 67K8617; Supplier 3: Mouser; Supplier Part Number 3: 595-TPS2111PWRG4; Eco-Plan: Green (RoHS & no Sb/Br); IN2 Output Current(Max)(A): 1.25; Mounting Technology: Surface Mount; Code_JEDEC: MO-153; ComponentLink1Description: Datasheet; ComponentLink1URL: http://www.ti.com/general/docs/lit/getliterature.tsp?genericPartNumber=TPS2111&fileType=pdf
footprint PW8_N (TSOP, 8-Leads, Body 3x4.4mm, Pitch 0.65mm, IPC Medium Density)
footprint PW8_L (TSOP, 8-Leads, Body 3x4.4mm, Pitch 0.65mm, IPC High Density)
footprint PW8_M (TSOP, 8-Leads, Body 3x4.4mm, Pitch 0.65mm, IPC Low Density)
pins: 1 D0 (in) "TTL and CMOS compatible input pins. Each pin has a 1-uA pull-up. The truth table shown above illustrates the functionality of D0 and D1.", 2 D1 (in) "TTL and CMOS compatible input pins. Each pin has a 1-uA pull-up. The truth table shown above illustrates the functionality of D0 and D1.", 3 VSNS (in) "In the auto-switching mode (D0 = 1, D1 = 0), an internal power FET connects OUT to IN1 if the VSNS voltage is greater than 0.8 V. Otherwise, the FET connects OUT to the higher of IN1 and IN2. The truth table shown above (See Datasheet)", 4 ILIM (in) "A resistor RILIM from ILIM to GND sets the current limit IL to 250/RILIM and 500/RILIM for the TPS2110 and TPS2111, respectively.", 5 GND (power) "Ground", 6 IN2 (power) "Secondary power switch input. The IN2 switch can be enabled only if the IN2 supply is above the UVLO threshold and at least one supply exceeds the internal VDD UVLO.", 7 OUT (power) "Power switch output", 8 IN1 (power) "Primary power switch input. The IN1 switch can be enabled only if the IN1 supply is above the UVLO threshold and at least one supply exceeds the internal VDD UVLO."